# Altium schematic symbol library CNY17-3-300E.SchLib: 1 symbol
Pins are listed as number, name and electrical type; pins without a type are passive.

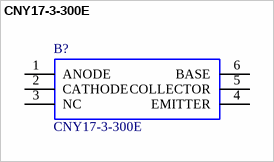
[diagram p0: symbol CNY17-3-300E]

## CNY17-3-300E
designator B?
Optocoupler DC i/p Transistor o/p DIP6GW Avago CNY17-3-300E DC Input Transistor Output Optocoupler, Surface Mount, 6-Pin PDIP; Manufacturer_Name: Avago Technologies; Geometry.Height: 4.6mm; Mouser Part Number: 630-CNY17-3-300E; Mouser Price/Stock: https://www.mouser.com/Search/Refine.aspx?Keyword=630-CNY17-3-300E; Manufacturer_Part_Number: CNY17-3-300E; Datasheet Link: https://componentsearchengine.com/Datasheets/2/CNY17-3-300E.pdf
footprint SOP254P1016X460-6N
pins: 1 ANODE, 2 CATHODE, 3 NC, 4 EMITTER, 5 COLLECTOR, 6 BASE